# Altium footprint library 3.3 Buck.PcbLib: 3 footprints
Each footprint in its own frame and in the unit in brackets; x right, y up, seen from the top. Pads: shape width x height; smd on the part's side, far side on the other; paste and mask are expansions set on the pad; w line width, h text height; cw(c..) or ccw(c..) is an arc to the next point about the centre after c.
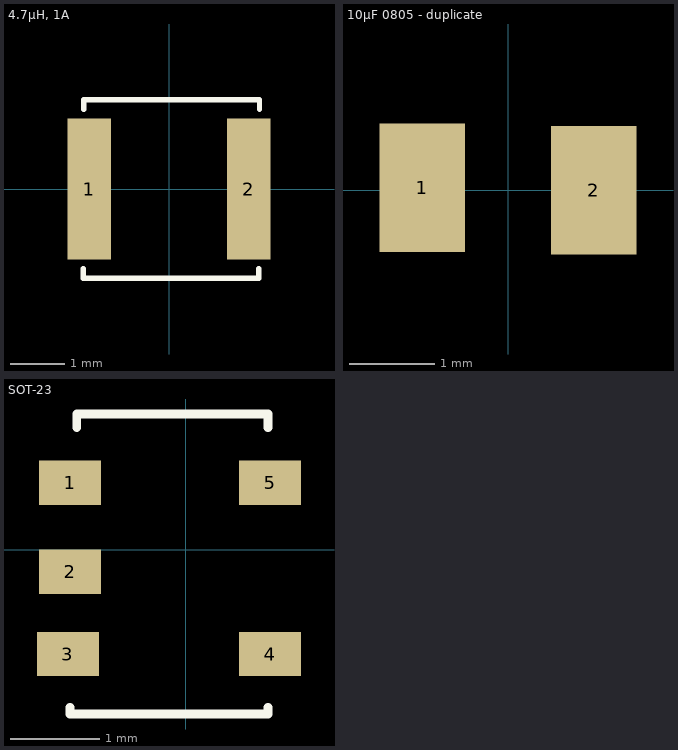
[diagram p0: the footprints below, top view; thin cyan lines are the x and y axes]

## 4.7µH, 1A [mm]
pads (2):
  rect 0.8x2.6 smd: 1(-1.475,0) 2(1.475,0)
Top Overlay:
  lines w0.1: -1.587,-1.65 -1.587,-1.475 ; -1.575,1.475 -1.575,1.65 1.65,1.65 1.675,1.65 1.675,1.475 ; -1.562,-1.65 1.663,-1.65 1.663,-1.475
3D body "LQH3NPN4R7MMEL.STEP": height 1.51, standoff 0.01, extent -1.45,-1.475 1.55,1.525

## 10µF 0805 - duplicate [mm]
pads (2):
  rect 1x1.5 smd: 1(-1,0.025) 2(1,0)
3D body "G-21_MUR.step": height 1.26, standoff 0.01, extent -0.975,-0.699 1.031,0.749

## SOT-23 [mm]
pads (5):
  rect 0.7x0.5 smd: 1(-1.3,0.75) 2(-1.3,-0.25) 3(-1.325,-1.175) 4(0.95,-1.175) 5(0.95,0.75)
Top Overlay:
  lines w0.1: -1.3,-1.775 -1.3,-1.85 -0.8,-1.85 0.45,-1.85 0.925,-1.85 0.925,-1.775 ; -1.225,1.375 -1.225,1.525 -0.8,1.525 0.45,1.525 0.925,1.525 0.925,1.375
3D body "AP3406K-ADJTRG1.STEP": height 1.46, standoff -0.19, extent -1.509,-1.68 1.411,1.28